# Altium schematic symbol library Schlib2_TPS5430.SchLib: 1 symbol
Pins are listed as number, name and electrical type; pins without a type are passive.

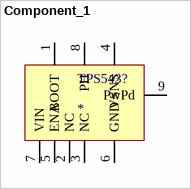
[diagram p0: symbol Component_1]

## Component_1
designator TPS543?
TPS5430
footprint TPS5430
pins: 1 BOOT, 2 NC, 3 NC, 4 VSNS, 5 ENA, 6 GND, 7 VIN , 8 PH, 9 PwPd